# Altium schematic symbol library QRE1113GR.SchLib: 1 symbol
Pins are listed as number, name and electrical type; pins without a type are passive.

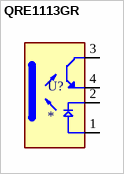
[diagram p0: symbol QRE1113GR]

## QRE1113GR
designator U?
QRE1113 Series 30 V 50 mA Miniature Reflective Object Sensor - SMD-4; MP: QRE1113GR; MF: {'manufacturer': u'ON Semiconductor'}; Value: *; Availability: Unavailable; Package: None; Price: None
footprint SOIC180P460X187-4N
pins: 1 A, 2 C, 3 CT, 4 ET